# EAGLE library part XEM7310 (library NIPCB)
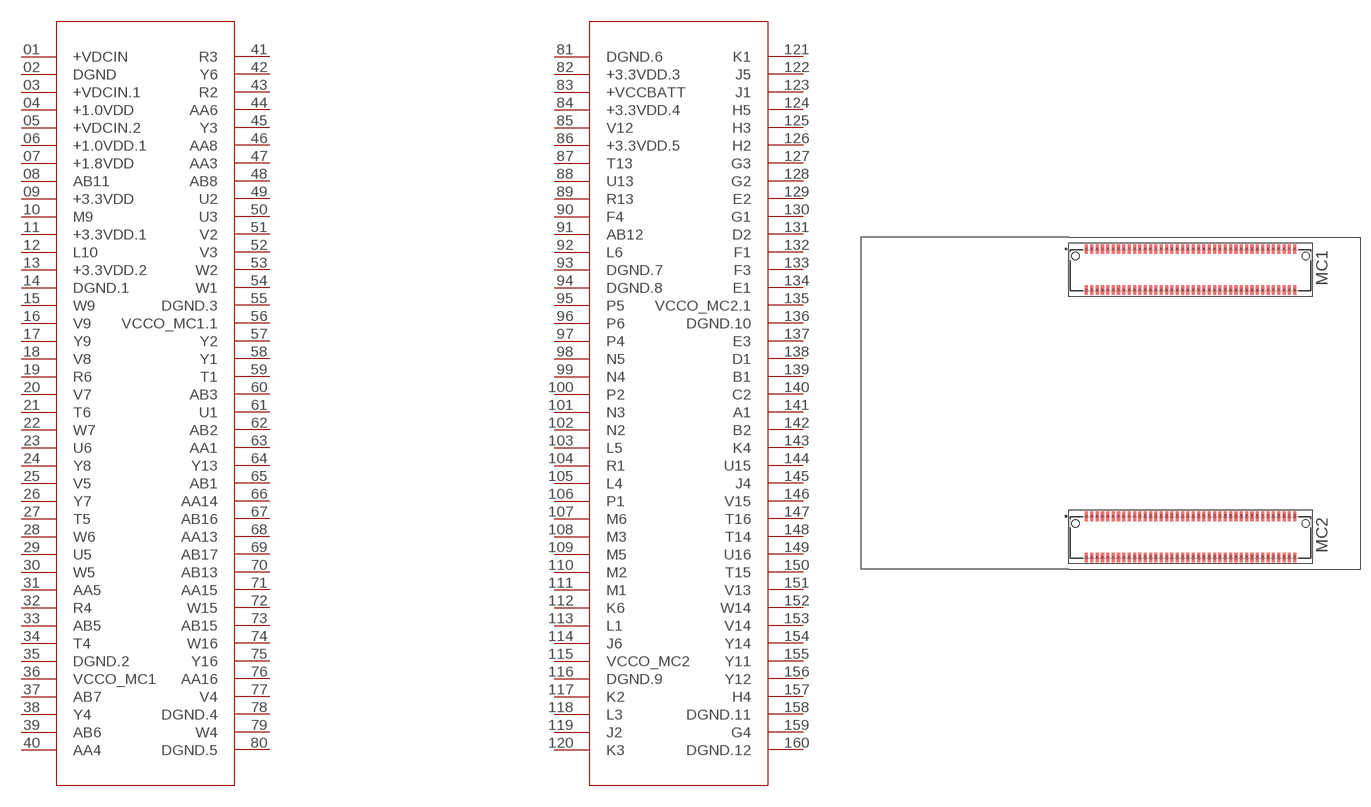
[diagram p7: symbol with the pads of XEM7310; footprint XEM7310]

Designator prefix -

## XEM7310  [XEM7310]
01  +VDCIN
02  DGND
03  +VDCIN.1
04  +1.0VDD
05  +VDCIN.2
06  +1.0VDD.1
07  +1.8VDD
08  AB11
09  +3.3VDD
10  M9
11  +3.3VDD.1
12  L10
13  +3.3VDD.2
14  DGND.1
15  W9
16  V9
17  Y9
18  V8
19  R6
20  V7
21  T6
22  W7
23  U6
24  Y8
25  V5
26  Y7
27  T5
28  W6
29  U5
30  W5
31  AA5
32  R4
33  AB5
34  T4
35  DGND.2
36  VCCO_MC1
37  AB7
38  Y4
39  AB6
40  AA4
41  R3
42  Y6
43  R2
44  AA6
45  Y3
46  AA8
47  AA3
48  AB8
49  U2
50  U3
51  V2
52  V3
53  W2
54  W1
55  DGND.3
56  VCCO_MC1.1
57  Y2
58  Y1
59  T1
60  AB3
61  U1
62  AB2
63  AA1
64  Y13
65  AB1
66  AA14
67  AB16
68  AA13
69  AB17
70  AB13
71  AA15
72  W15
73  AB15
74  W16
75  Y16
76  AA16
77  V4
78  DGND.4
79  W4
80  DGND.5
81  DGND.6
82  +3.3VDD.3
83  +VCCBATT
84  +3.3VDD.4
85  V12
86  +3.3VDD.5
87  T13
88  U13
89  R13
90  F4
91  AB12
92  L6
93  DGND.7
94  DGND.8
95  P5
96  P6
97  P4
98  N5
99  N4
100  P2
101  N3
102  N2
103  L5
104  R1
105  L4
106  P1
107  M6
108  M3
109  M5
110  M2
111  M1
112  K6
113  L1
114  J6
115  VCCO_MC2
116  DGND.9
117  K2
118  L3
119  J2
120  K3
121  K1
122  J5
123  J1
124  H5
125  H3
126  H2
127  G3
128  G2
129  E2
130  G1
131  D2
132  F1
133  F3
134  E1
135  VCCO_MC2.1
136  DGND.10
137  E3
138  D1
139  B1
140  C2
141  A1
142  B2
143  K4
144  U15
145  J4
146  V15
147  T16
148  T14
149  U16
150  T15
151  V13
152  W14
153  V14
154  Y14
155  Y11
156  Y12
157  H4
158  DGND.11
159  G4
160  DGND.12

## Footprint XEM7310 (pad centres in mm)
smd 0.457 x 1.44: 01 2.65,48.606; 02 2.65,42.434; 03 3.45,48.606; 04 3.45,42.434; 05 4.25,48.606; 06 4.25,42.434; 07 5.05,48.606; 08 5.05,42.434; 09 5.85,48.606; 10 5.85,42.434; 11 6.65,48.606; 12 6.65,42.434; 13 7.45,48.606; 14 7.45,42.434; 15 8.25,48.606; 16 8.25,42.434; 17 9.05,48.606; 18 9.05,42.434; 19 9.85,48.606; 20 9.85,42.434; 21 10.65,48.606; 22 10.65,42.434; 23 11.45,48.606; 24 11.45,42.434; 25 12.25,48.606; 26 12.25,42.434; 27 13.05,48.606; 28 13.05,42.434; 29 13.85,48.606; 30 13.85,42.434; 31 14.65,48.606; 32 14.65,42.434; 33 15.45,48.606; 34 15.45,42.434; 35 16.25,48.606; 36 16.25,42.434; 37 17.05,48.606; 38 17.05,42.434; 39 17.85,48.606; 40 17.85,42.434; 41 18.65,48.606; 42 18.65,42.434; 43 19.45,48.606; 44 19.45,42.434; 45 20.25,48.606; 46 20.25,42.434; 47 21.05,48.606; 48 21.05,42.434; 49 21.85,48.606; 50 21.85,42.434; 51 22.65,48.606; 52 22.65,42.434; 53 23.45,48.606; 54 23.45,42.434; 55 24.25,48.606; 56 24.25,42.434; 57 25.05,48.606; 58 25.05,42.434; 59 25.85,48.606; 60 25.85,42.434; 61 26.65,48.606; 62 26.65,42.434; 63 27.45,48.606; 64 27.45,42.434; 65 28.25,48.606; 66 28.25,42.434; 67 29.05,48.606; 68 29.05,42.434; 69 29.85,48.606; 70 29.85,42.434; 71 30.65,48.606; 72 30.65,42.434; 73 31.45,48.606; 74 31.45,42.434; 75 32.25,48.606; 76 32.25,42.434; 77 33.05,48.606; 78 33.05,42.434; 79 33.85,48.606; 80 33.85,42.434; 81 2.65,8.576; 82 2.65,2.404; 83 3.45,8.576; 84 3.45,2.404; 85 4.25,8.576; 86 4.25,2.404; 87 5.05,8.576; 88 5.05,2.404; 89 5.85,8.576; 90 5.85,2.404; 91 6.65,8.576; 92 6.65,2.404; 93 7.45,8.576; 94 7.45,2.404; 95 8.25,8.576; 96 8.25,2.404; 97 9.05,8.576; 98 9.05,2.404; 99 9.85,8.576; 100 9.85,2.404; 101 10.65,8.576; 102 10.65,2.404; 103 11.45,8.576; 104 11.45,2.404; 105 12.25,8.576; 106 12.25,2.404; 107 13.05,8.576; 108 13.05,2.404; 109 13.85,8.576; 110 13.85,2.404; 111 14.65,8.576; 112 14.65,2.404; 113 15.45,8.576; 114 15.45,2.404; 115 16.25,8.576; 116 16.25,2.404; 117 17.05,8.576; 118 17.05,2.404; 119 17.85,8.576; 120 17.85,2.404; 121 18.65,8.576; 122 18.65,2.404; 123 19.45,8.576; 124 19.45,2.404; 125 20.25,8.576; 126 20.25,2.404; 127 21.05,8.576; 128 21.05,2.404; 129 21.85,8.576; 130 21.85,2.404; 131 22.65,8.576; 132 22.65,2.404; 133 23.45,8.576; 134 23.45,2.404; 135 24.25,8.576; 136 24.25,2.404; 137 25.05,8.576; 138 25.05,2.404; 139 25.85,8.576; 140 25.85,2.404; 141 26.65,8.576; 142 26.65,2.404; 143 27.45,8.576; 144 27.45,2.404; 145 28.25,8.576; 146 28.25,2.404; 147 29.05,8.576; 148 29.05,2.404; 149 29.85,8.576; 150 29.85,2.404; 151 30.65,8.576; 152 30.65,2.404; 153 31.45,8.576; 154 31.45,2.404; 155 32.25,8.576; 156 32.25,2.404; 157 33.05,8.576; 158 33.05,2.404; 159 33.85,8.576; 160 33.85,2.404
hole 1.1 at 1,7.5
hole 1.1 at 35.5,7.5
hole 1.1 at 1,47.55
hole 1.1 at 35.5,47.55